# Altium schematic symbol library power_supplies_driver.SchLib: 3 symbols
Pins are listed as number, name and electrical type; pins without a type are passive.

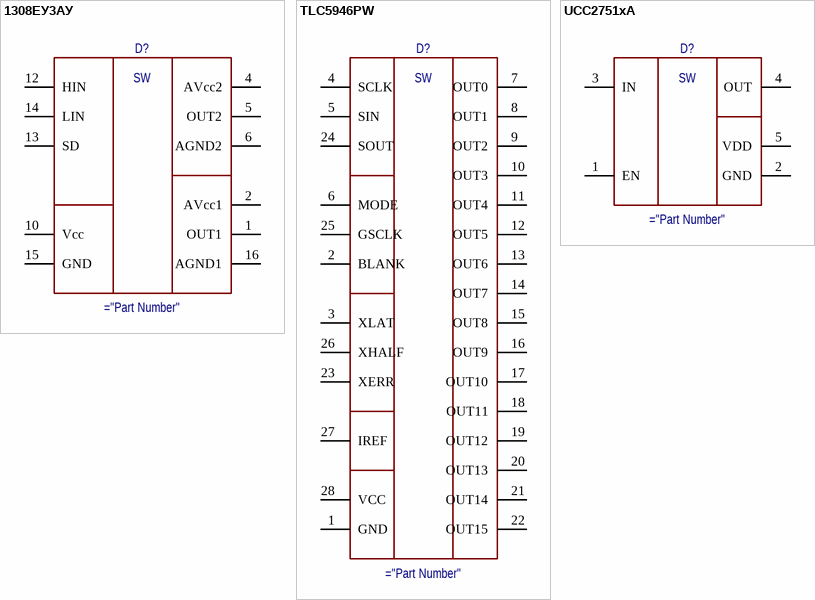
[diagram p0: symbols 1308ЕУ3АУ to UCC2751xA]

## 1308ЕУ3АУ
designator D?
Half-Bridge
pins: 1 OUT1, 2 AVcc1, 3 NC hidden, 4 AVcc2, 5 OUT2, 6 AGND2, 7 NC hidden, 8 NC hidden, 9 NC hidden, 10 Vcc, 11 NC hidden, 12 HIN, 13 SD, 14 LIN, 15 GND, 16 AGND1
text: SW

## TLC5946PW
designator D?
LED Driver
pins: 1 GND, 2 BLANK, 3 XLAT, 4 SCLK, 5 SIN, 6 MODE, 7 OUT0, 8 OUT1, 9 OUT2, 10 OUT3, 11 OUT4, 12 OUT5, 13 OUT6, 14 OUT7, 15 OUT8, 16 OUT9, 17 OUT10, 18 OUT11, 19 OUT12, 20 OUT13, 21 OUT14, 22 OUT15, 23 XERR, 24 SOUT, 25 GSCLK, 26 XHALF, 27 IREF, 28 VCC
text: SW

## UCC2751xA
designator D?
Gate Driver
pins: 1 EN, 2 GND, 3 IN, 4 OUT, 5 VDD
text: SW